# Altium footprint library 0154.250DR.PcbLib: 1 footprints
Each footprint in its own frame and in the unit in brackets; x right, y up, seen from the top. Pads: shape width x height; smd on the part's side, far side on the other; paste and mask are expansions set on the pad; w line width, h text height; cw(c..) or ccw(c..) is an arc to the next point about the centre after c.
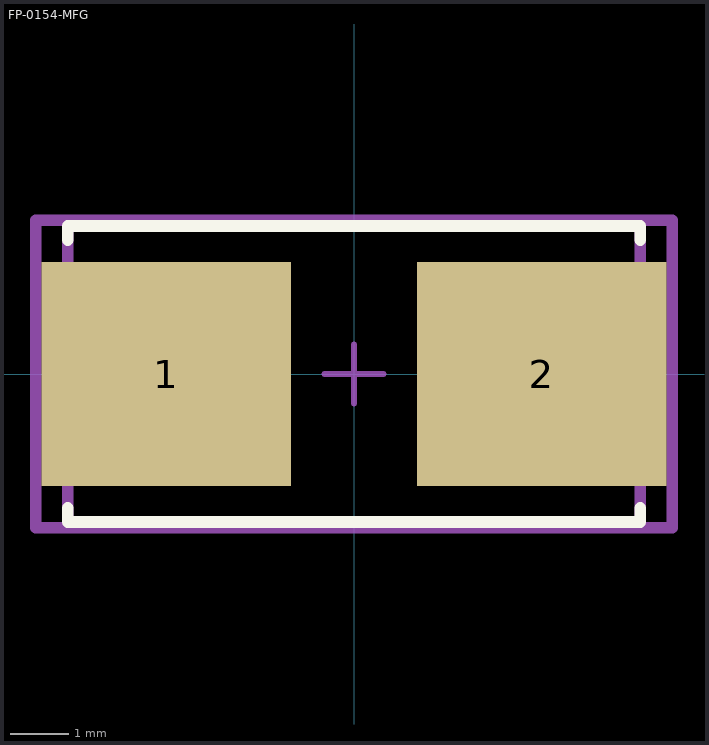
[diagram p0: the footprint, top view; thin cyan lines are the x and y axes]

## FP-0154-MFG [mil]
pads (2):
  rect 167x150 smd paste+0 mask+0: 1(-125.5,0) 2(125.5,0)
Top Overlay:
  lines w7.87: -191.54,-89.76 -191.54,-99.02 191.54,-99.02 191.54,-89.76 ; -191.54,89.76 -191.54,99.02 191.54,99.02 191.54,89.76
Top Assembly:
  lines w7.87: -212.94,-102.95 -212.94,102.95 212.94,102.95 212.94,-102.95 -212.94,-102.95
  text ".Designator" at 0,7.41 h39.37
Top 3D Body:
  lines w7.87: -191.54,-99.02 -191.54,99.02 191.54,99.02 191.54,-99.02 -191.54,-99.02
Top Courtyard:
  lines w7.87: -212.94,-102.95 -212.94,102.95 212.94,102.95 212.94,-102.95 -212.94,-102.95
Top Component Center:
  lines w3.94: -19.68,0 19.68,0 ; 0,-19.68 0,19.68
3D body "Fuse_Littelfuse_Inc_0154_125DR_eec.STEP": height 10, standoff 0, extent -212.94,-102.95 212.94,102.95